# Altium schematic symbol library RT0402BRE072KL.SchLib: 1 symbol
Pins are listed as number, name and electrical type; pins without a type are passive.

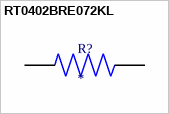
[diagram p0: symbol RT0402BRE072KL]

## RT0402BRE072KL
designator R?
2 kOhms Â±0.1% 0.063W, 1/16W Chip Resistor 0402 (1005 Metric) - Thin Film; MF: Yageo; MP: RT0402BRE072KL; SnapEDA_Link: https://www.snapeda.com/parts/RT0402BRE072KL/Yageo/view-part/?ref=snap; Digi-Key_Part_Number: YAG4370TR-ND; Check_prices: https://www.snapeda.com/parts/RT0402BRE072KL/Yageo/view-part/?ref=eda; Value: *; Package: 1005 Yageo; Purchase-URL: https://pricing.snapeda.com/search/part/RT0402BRE072KL/?ref=eda
footprint RESC1005X35N
pins: 1, 2